# EAGLE library part LSM-5/10-D12 (library robot)
Convertisseur DC-DC 12V->5V Datel LSM-5/10-d12
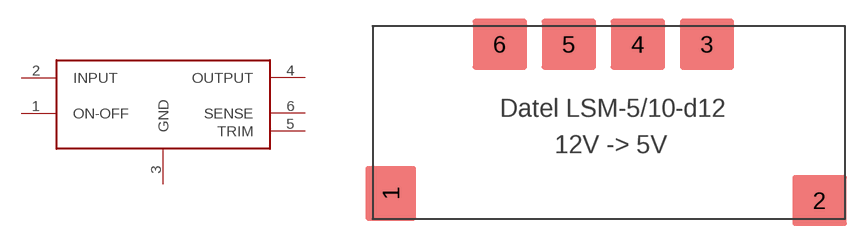
[diagram p4: symbol with the pads of LSM-5/10-D12; footprint LSM-5/10-D12]

Designator prefix -

## LSM-5/10-D12  [LSM-5/10-D12]
1  ON-OFF
2  INPUT
3  GND
4  OUTPUT
5  TRIM
6  SENSE

## Footprint LSM-5/10-D12 (pad centres in mm)
smd 3.556 x 3.81: 1 0,-10.414
smd 3.81 x 3.556: 2 29.972,-10.922; 3 22.098,0; 4 17.272,0; 5 12.446,0; 6 7.62,0